# EAGLE library part PROG_HEADER_STANDARD (library con-special_purpose)
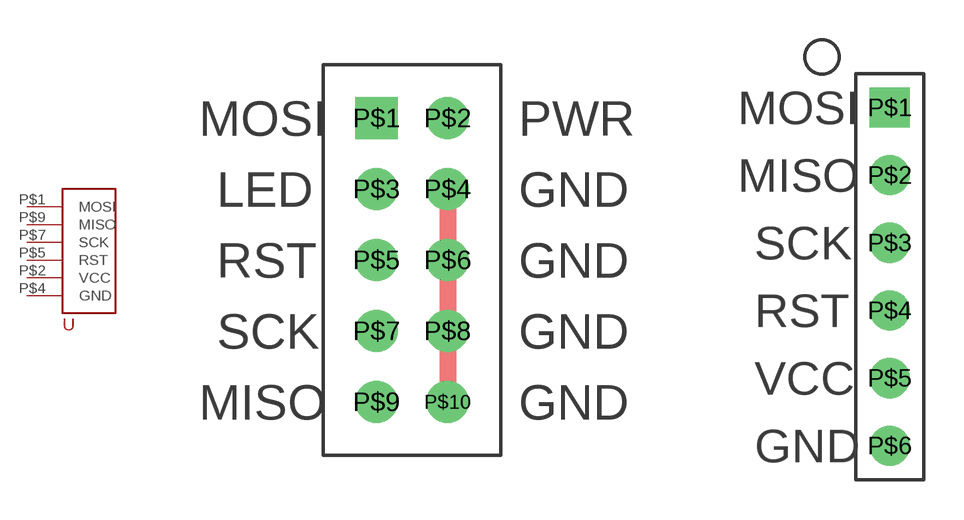
[diagram p6: symbol with the pads of HEADER2.56_ATMEL; footprints HEADER2.56_ATMEL, HEADER2.56_6X1_ATMEL]

Designator prefix -

## PROG_HEADER_STANDARDISP (PLACE_PART: YES)  [HEADER2.56_ATMEL]
P$1  MOSI
P$2  VCC
P$4  GND
P$5  RST
P$7  SCK
P$9  MISO

## PROG_HEADER_STANDARDDIRECT (PLACE_PART: YES)  [HEADER2.56_6X1_ATMEL]
P$1  MOSI
P$2  MISO
P$3  SCK
P$4  RST
P$5  VCC
P$6  GND

## Footprint HEADER2.56_ATMEL (pad centres in mm)
drill 1 square: P$1 -2.54,5.08
drill 1: P$2 0,5.08; P$3 -2.54,2.54; P$4 0,2.54; P$5 -2.54,0; P$6 0,0; P$7 -2.54,-2.54; P$8 0,-2.54; P$9 -2.54,-5.08; P$10 0,-5.08

## Footprint HEADER2.56_6X1_ATMEL (pad centres in mm)
drill 1 square: P$1 0,6.35
drill 1: P$2 0,3.81; P$3 0,1.27; P$4 0,-1.27; P$5 0,-3.81; P$6 0,-6.35